# Altium schematic symbol library ft220xs.SchLib: 1 symbol
Pins are listed as number, name and electrical type; pins without a type are passive.

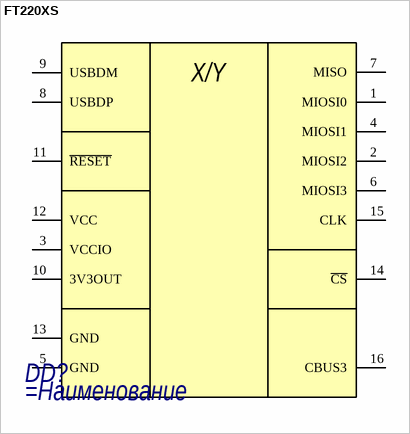
[diagram p0: symbol FT220XS]

## FT220XS
designator DD?
=Описание
pins: 1 MIOSI0, 2 MIOSI2, 3 VCCIO, 4 MIOSI1, 5 GND, 6 MIOSI3, 7 MISO, 8 USBDP, 9 USBDM, 10 3V3OUT, 11 ~{RESET}, 12 VCC, 13 GND, 14 ~{CS}, 15 CLK, 16 CBUS3
text: X/Y